# Altium footprint library vi_measurement.PcbLib: 64 footprints (part 2 of 4)
Each footprint in its own frame and in the unit in brackets; x right, y up, seen from the top. Pads: shape width x height; smd on the part's side, far side on the other; paste and mask are expansions set on the pad; w line width, h text height; cw(c..) or ccw(c..) is an arc to the next point about the centre after c.
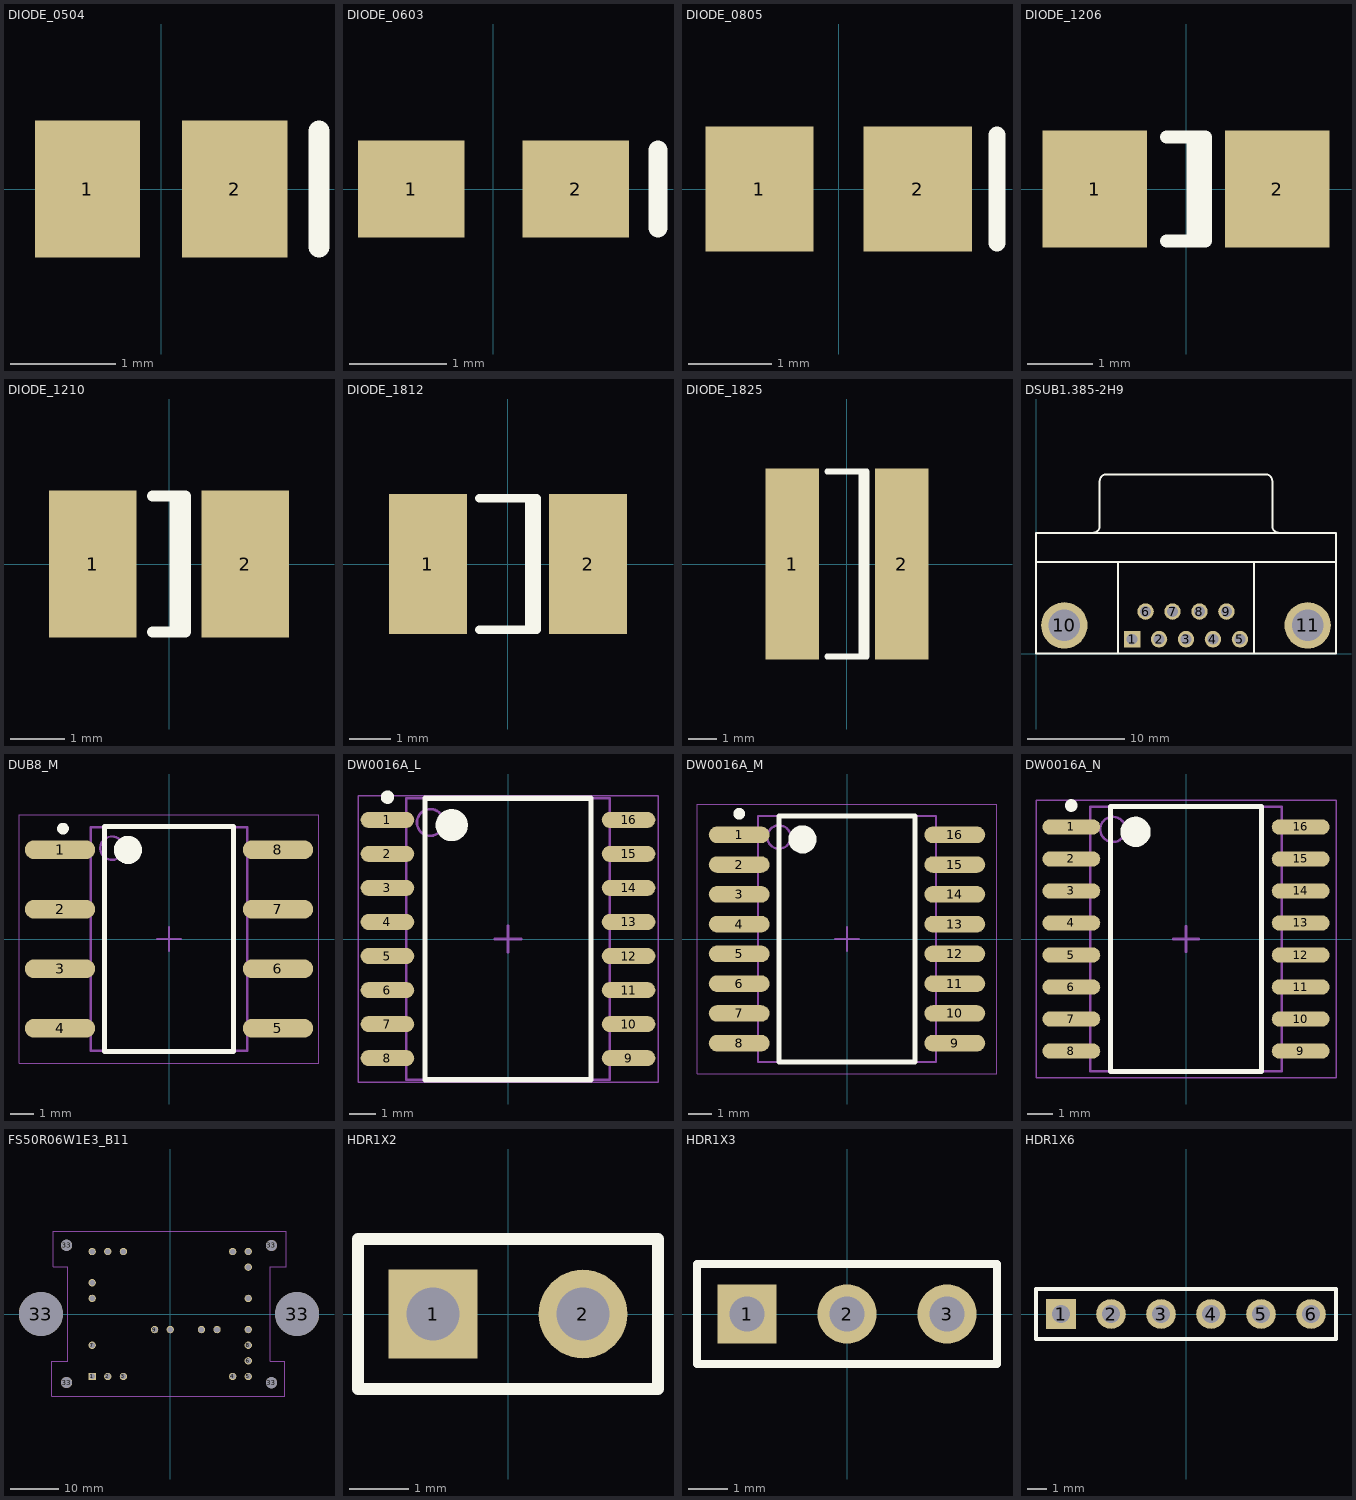
[diagram p1: the footprints below, top view; thin cyan lines are the x and y axes]

## DIODE_0504 [mm] "Chip Diode; Body 1.2 x 1.0 mm (LxW typ)"
height 1.02
pads (2):
  rect 1x1.3 smd: 1(-0.7,0) 2(0.7,0)
Top Overlay:
  lines w0.2: 1.5,-0.55 1.5,0.55

## DIODE_0603 [mm] "Chip Diode; Body 1.6 x 0.8 mm (LxW typ)"
height 0.85
pads (2):
  rect 1.1x1 smd: 1(-0.85,0) 2(0.85,0)
Top Overlay:
  lines w0.2: 1.7,-0.4 1.7,0.4

## DIODE_0805 [mm] "Chip Diode; Body 2.0 x 1.3 mm (LxW typ)"
height 1.1
pads (2):
  rect 1.3x1.5 smd: 1(-0.95,0) 2(0.95,0)
Top Overlay:
  lines w0.2: 1.9,-0.65 1.9,0.65

## DIODE_1206 [mm] "Chip Diode; Body 3.2 x 1.6 mm (LxW typ)"
height 1.35
pads (2):
  rect 1.6x1.8 smd: 1(-1.4,0) 2(1.4,0)
Top Overlay:
  lines w0.2: -0.3,-0.8 0.3,-0.8 0.3,0.8 -0.3,0.8 ; 0.11,-0.8 0.11,0.8

## DIODE_1210 [mm] "Chip Diode; Body 3.2 x 2.5 mm (LxW typ)"
height 1.35
pads (2):
  rect 1.6x2.7 smd: 1(-1.4,0) 2(1.4,0)
Top Overlay:
  lines w0.2: -0.3,-1.25 0.3,-1.25 0.3,1.25 -0.3,1.25 ; 0.11,-1.25 0.11,1.25

## DIODE_1812 [mm] "Chip Diode; Body 4.5 x 3.2 mm (LxW typ)"
height 1.35
pads (2):
  rect 1.9x3.4 smd: 1(-1.95,0) 2(1.95,0)
Top Overlay:
  lines w0.2: -0.7,-1.6 0.7,-1.6 0.7,1.6 -0.7,1.6 ; 0.51,-1.6 0.51,1.6

## DIODE_1825 [mm] "Chip Diode; Body 4.5 x 6.4 mm (LxW typ)"
height 1.1
pads (2):
  rect 1.9x6.8 smd: 1(-1.95,0) 2(1.95,0)
Top Overlay:
  lines w0.2: -0.7,-3.3 0.7,-3.3 0.7,3.3 -0.7,3.3 ; 0.51,-3.3 0.51,3.3

## DSUB1.385-2H9 [mm] "Connector; D Subminiature; 9 Position; Right Angle; Pitch 1.385 mm"
height 12.75
pads (11):
  rect 1.69x1.69 hole 1.09: 1(9.86,1.48)
  round 1.69 hole 1.09: 2(12.63,1.48) 3(15.4,1.48) 4(18.17,1.48) 5(20.94,1.48) 6(11.245,4.32) 7(14.015,4.32) 8(16.785,4.32) 9(19.555,4.32)
  round 4.76 hole 3.26: 10(2.905,2.9) 11(27.895,2.9)
Top Overlay:
  lines w0.2: 0,9.4 30.8,9.4 ; 5.84,12.405 ccw(c5.84,13.1) 6.535,13.1 6.535,17.7 ; 6.54,17.705 cw(c7.235,17.705) 7.235,18.4 23.565,18.4 cw(c23.565,17.705) 24.26,17.705 ; 8.4,0 8.4,9.4 ; 22.4,0 22.4,9.4 ; 24.265,17.7 24.265,13.1 ccw(c24.96,13.1) 24.96,12.405 ; 0,0 30.8,0 30.8,12.4 0,12.4 0,0

## DUB8_M [mm] "SOP, 8-Leads, Body 9.5x6.62mm, Pitch 2.54mm, IPC Low Density"
height 4.85
pads (8):
  oval 3x0.8 smd: 1(-4.65,3.81) 2(-4.65,1.27) 3(-4.65,-1.27) 4(-4.65,-3.81) 5(4.65,-3.81) 6(4.65,-1.27) 7(4.65,1.27) 8(4.65,3.81)
Top Overlay:
  circle w0.25: c-4.525,4.71 r0.125
  circle w0.6: c-1.75,3.8 r0.3
  lines w0.2: -2.75,-4.8 -2.75,4.8 2.75,4.8 2.75,-4.8 -2.75,-4.8
Mechanical 13:
  circle w0.1: c-2.435,3.875 r0.5
  lines w0.1: -3.335,-4.775 -3.335,4.775 3.335,4.775 3.335,-4.775 -3.335,-4.775
Mechanical 15:
  lines w0.05: -6.4,-5.3 -6.4,5.3 6.4,5.3 6.4,-5.3 -6.4,-5.3
  lines w0.1: -0.5,0 0.5,0 ; 0,-0.5 0,0.5
3D body: height 4.85, standoff 0.38, extent -3.335,-4.775 3.335,4.775

## DW0016A_L [mm] "SOIC, 16-Leads, Body 10.5x7.6mm, Pitch 1.27mm, IPC High Density"
height 2.65
pads (16):
  oval 2x0.6 smd: 1(-4.5,4.445) 2(-4.5,3.175) 3(-4.5,1.905) 4(-4.5,0.635) 5(-4.5,-0.635) 6(-4.5,-1.905) 7(-4.5,-3.175) 8(-4.5,-4.445) 9(4.5,-4.445) 10(4.5,-3.175) 11(4.5,-1.905) 12(4.5,-0.635) 13(4.5,0.635) 14(4.5,1.905) 15(4.5,3.175) 16(4.5,4.445)
Top Overlay:
  circle w0.25: c-4.5,5.295 r0.125
  circle w0.6: c-2.1,4.25 r0.3
  lines w0.2: -3.1,-5.25 -3.1,5.25 3.1,5.25 3.1,-5.25 -3.1,-5.25
Mechanical 13:
  circle w0.1: c-2.9,4.35 r0.5
  lines w0.1: -3.8,-5.25 -3.8,5.25 3.8,5.25 3.8,-5.25 -3.8,-5.25
Mechanical 15:
  lines w0.05: -5.6,-5.35 -5.6,5.35 5.6,5.35 5.6,-5.35 -5.6,-5.35
  lines w0.1: -0.5,0 0.5,0 ; 0,-0.5 0,0.5
3D body: height 2.65, standoff 0.1, extent -3.8,-5.25 3.8,5.25

## DW0016A_M [mm] "SOIC, 16-Leads, Body 10.5x7.6mm, Pitch 1.27mm, IPC Low Density"
height 2.65
pads (16):
  oval 2.6x0.7 smd: 1(-4.6,4.445) 2(-4.6,3.175) 3(-4.6,1.905) 4(-4.6,0.635) 5(-4.6,-0.635) 6(-4.6,-1.905) 7(-4.6,-3.175) 8(-4.6,-4.445) 9(4.6,-4.445) 10(4.6,-3.175) 11(4.6,-1.905) 12(4.6,-0.635) 13(4.6,0.635) 14(4.6,1.905) 15(4.6,3.175) 16(4.6,4.445)
Top Overlay:
  circle w0.25: c-4.6,5.345 r0.125
  circle w0.6: c-1.9,4.25 r0.3
  lines w0.2: -2.9,-5.25 -2.9,5.25 2.9,5.25 2.9,-5.25 -2.9,-5.25
Mechanical 13:
  circle w0.1: c-2.9,4.35 r0.5
  lines w0.1: -3.8,-5.25 -3.8,5.25 3.8,5.25 3.8,-5.25 -3.8,-5.25
Mechanical 15:
  lines w0.05: -6.4,-5.75 -6.4,5.75 6.4,5.75 6.4,-5.75 -6.4,-5.75
  lines w0.1: -0.5,0 0.5,0 ; 0,-0.5 0,0.5
3D body: height 2.65, standoff 0.1, extent -3.8,-5.25 3.8,5.25

## DW0016A_N [mm] "SOIC, 16-Leads, Body 10.5x7.6mm, Pitch 1.27mm, IPC Medium Density"
height 2.65
pads (16):
  oval 2.3x0.6 smd: 1(-4.55,4.445) 2(-4.55,3.175) 3(-4.55,1.905) 4(-4.55,0.635) 5(-4.55,-0.635) 6(-4.55,-1.905) 7(-4.55,-3.175) 8(-4.55,-4.445) 9(4.55,-4.445) 10(4.55,-3.175) 11(4.55,-1.905) 12(4.55,-0.635) 13(4.55,0.635) 14(4.55,1.905) 15(4.55,3.175) 16(4.55,4.445)
Top Overlay:
  circle w0.6: c-2,4.25 r0.3
  circle w0.25: c-4.55,5.295 r0.125
  lines w0.2: -3,-5.25 3,-5.25 3,5.25 -3,5.25 -3,-5.25
Mechanical 13:
  circle w0.1: c-2.9,4.35 r0.5
  lines w0.1: -3.8,-5.25 3.8,-5.25 3.8,5.25 -3.8,5.25 -3.8,-5.25
Mechanical 15:
  lines w0.05: -5.95,-5.5 5.95,-5.5 5.95,5.5 -5.95,5.5 -5.95,-5.5
  lines w0.1: -0.5,0 0.5,0 ; 0,-0.5 0,0.5
3D body: height 2.65, standoff 0.1, extent -3.8,-5.25 3.8,5.25

## FS50R06W1E3_B11 [mm] "FS50R06W1E3_B11"
height 2.54
pads (28):
  rect 1.5x1.5 hole 1.15: 1(-16,-12.8)
  round 1.5 hole 1.15: 2(-12.8,-12.8) 3(-9.6,-12.8) 4(12.8,-12.8) 5(16,-12.8) 6(16,-9.6) 7(-16,-6.4) 8(16,-6.4) 9(-3.2,-3.2) 10(0,-3.2) 11(6.4,-3.2) 12(9.6,-3.2) 13(16,-3.2) 14(-16,3.2) 15(16,3.2) 16(-16,6.4) 17(16,9.6) 18(-16,12.8) 19(-12.8,12.8) 20(-9.6,12.8) 21(12.8,12.8) 22(16,12.8)
  round 9 hole 9: 33(-26.5,0) 33(26,0)
  round 2.3 hole 2.3: 33(-21.25,14.075) 33(-21.25,-14.05) 33(20.75,14.05) 33(20.75,-14.075)
Mechanical 1:
  lines w0.254: -24.25,-9.708 -21,-9.7 -21,9.728 -24,9.728 -24,16.925 23.75,16.925 ; -24.25,-9.703 -24.25,-16.9 23.5,-16.9 ; 20.5,-9.7 20.5,9.7 ; 23.5,-16.925 23.5,-9.728 20.5,-9.728 20.5,9.7 ; 23.75,9.703 23.75,16.9 ; 23.75,9.708 20.5,9.7
3D body "User Library-FP20R06W1E3.STEP": height 12.01, standoff -3.49, extent -31.217,-16.929 31.369,16.878

## HDR1X2 [mm] "Connector; Header; 2 Position"
pads (2):
  rect 1.5x1.5 hole 0.9: 1(-1.27,0)
  round 1.5 hole 0.9: 2(1.27,0)
Top Overlay:
  lines w0.2: -2.54,-1.27 -2.54,1.27 2.54,1.27 2.54,-1.27 -2.54,-1.27

## HDR1X3 [mm] "Connector; Header; 3 Position"
pads (3):
  rect 1.5x1.5 hole 0.9: 1(-2.54,0)
  round 1.5 hole 0.9: 2(0,0) 3(2.54,0)
Top Overlay:
  lines w0.2: -3.81,-1.27 3.81,-1.27 3.81,1.27 -3.81,1.27 -3.81,-1.27

## HDR1X6 [mm] "Connector; Header; 6 Position"
pads (6):
  rect 1.5x1.5 hole 0.9: 1(-6.35,0)
  round 1.5 hole 0.9: 2(-3.81,0) 3(-1.27,0) 4(1.27,0) 5(3.81,0) 6(6.35,0)
Top Overlay:
  lines w0.2: -7.62,-1.27 7.62,-1.27 7.62,1.27 -7.62,1.27 -7.62,-1.27